# EAGLE library part DRV8833 (library Ai_IC)
DRV8833 Dual H-Bridge Motor Driver -- HTSSOP Package
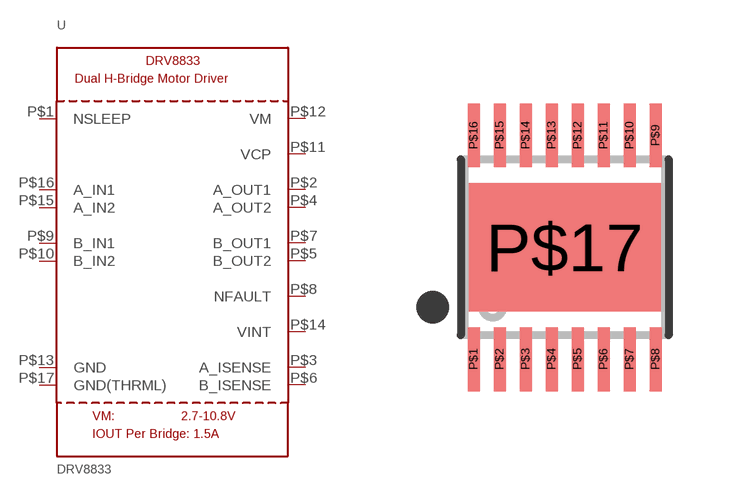
[diagram p27: symbol with the pads of HTSSOP16; footprint HTSSOP16]

Designator prefix U

## DRV8833  [HTSSOP16]
P$1  NSLEEP  in
P$2  A_OUT1  out
P$3  A_ISENSE
P$4  A_OUT2  out
P$5  B_OUT2  out
P$6  B_ISENSE
P$7  B_OUT1  out
P$8  NFAULT
P$9  B_IN1  in
P$10  B_IN2  in
P$11  VCP
P$12  VM  pwr
P$13  GND  pwr
P$14  VINT  pwr
P$15  A_IN2  in
P$16  A_IN1  in
P$17  GND(THRML)  pwr

## Footprint HTSSOP16 (pad centres in mm)
HTSSOP 16 (5x4.4mm 0.65mm Pitch) Source: http://www.ti.com/lit/ds/slvsar1b/slvsar1b.pdf
smd 0.3 x 1.6: P$1 -2.275,-2.8; P$2 -1.625,-2.8; P$3 -0.975,-2.8; P$4 -0.325,-2.8; P$5 0.325,-2.8; P$6 0.975,-2.8; P$7 1.625,-2.8; P$8 2.275,-2.8; P$9 2.275,2.8; P$10 1.625,2.8; P$11 0.975,2.8; P$12 0.325,2.8; P$13 -0.325,2.8; P$14 -0.975,2.8; P$15 -1.625,2.8; P$16 -2.275,2.8
smd 4.8 x 3.2: P$17 0,0